# Altium footprint library aekiso60.PcbLib: 9 footprints
Each footprint in its own frame and in the unit in brackets; x right, y up, seen from the top. Pads: shape width x height; smd on the part's side, far side on the other; paste and mask are expansions set on the pad; w line width, h text height; cw(c..) or ccw(c..) is an arc to the next point about the centre after c.
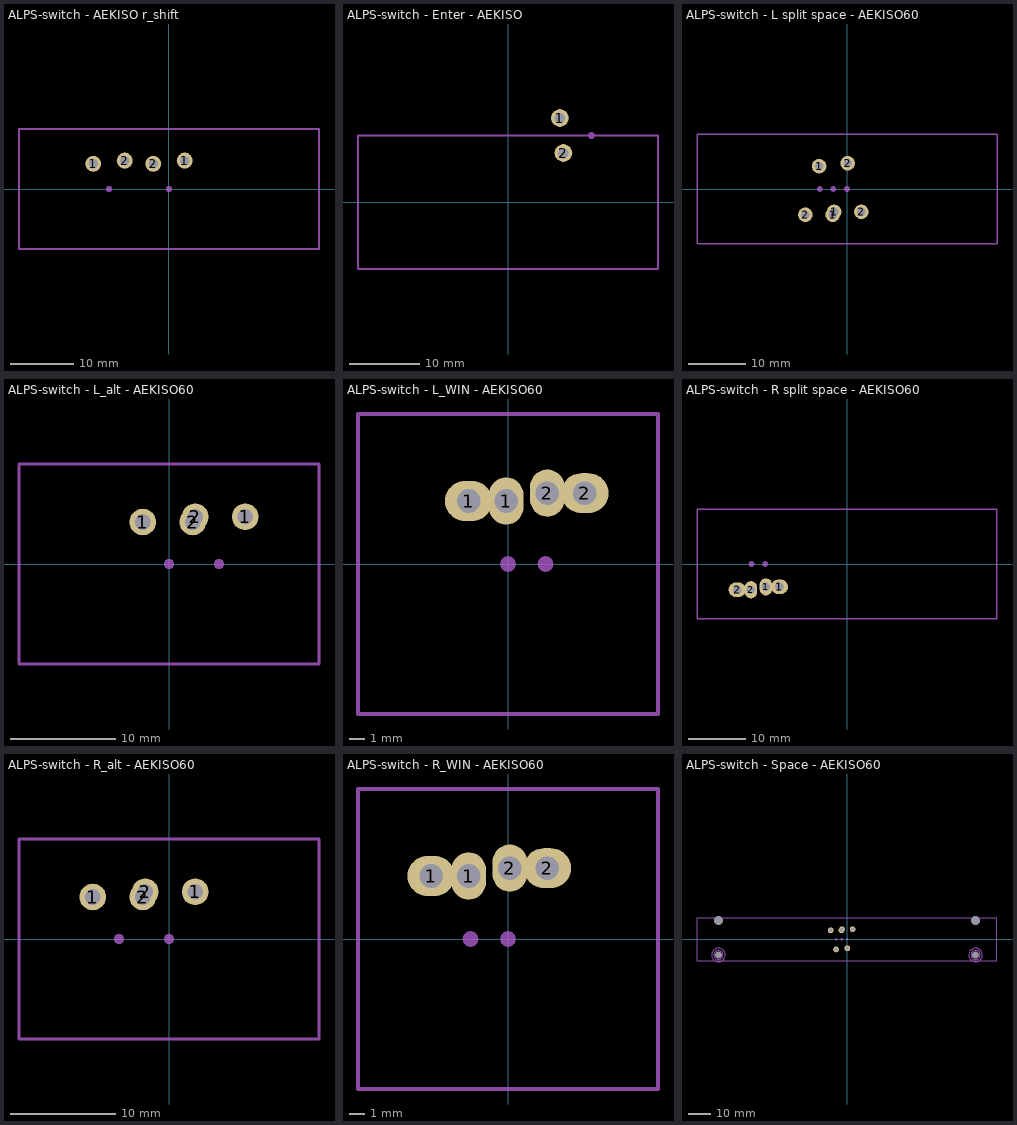
[diagram p0: the footprints below, top view; thin cyan lines are the x and y axes]

## ALPS-switch - AEKISO r_shift [mm]
pads (6):
  round 2.54 hole 1.5 mask-0.5: 1(-12.025,4) 1(2.5,4.5) 2(-7.025,4.5) 2(-2.5,4)
  round 1 on Mech13: ""(-9.525,0) ""(0,0)
Mechanical 13:
  lines w0.254: -23.812,-9.525 -23.812,9.525 23.812,9.525 23.812,-9.525 -23.812,-9.525
  text ".Designator" at -3.825,-3.375 h0.7

## ALPS-switch - Enter - AEKISO [mm]
pads (3):
  round 2.54 hole 1.5 mask-0.5: 1(7.411,12.03) 2(7.911,7.03)
  round 1 on Mech13: ""(11.911,9.53)
Mechanical 13:
  lines w0.254: -21.431,-9.525 21.431,-9.525 21.431,9.525 -21.431,9.525 -21.431,-9.525
  text ".Designator" at 7.85,1.8 h0.7

## ALPS-switch - L split space - AEKISO60 [mm]
pads (9):
  round 2.54 hole 1.5 mask-0.5: 1(-4.881,4) 1(-2.5,-4.5) 1(-2.262,-4) 2(-7.263,-4.5) 2(0.119,4.5) 2(2.5,-4)
  round 1 on Mech13: ""(-4.763,0) ""(-2.381,0) ""(0,0)
Mechanical 13:
  lines w0.254: -26.194,-9.525 26.194,-9.525 26.194,9.525 -26.194,9.525 -26.194,-9.525
  text ".Designator" at -10.525,-4.125 h0.7

## ALPS-switch - L_alt - AEKISO60 [mm]
pads (6):
  round 2.54 hole 1.5 mask-0.5: 1(-2.5,4) 1(7.263,4.5) 2(2.262,4) 2(2.5,4.5)
  round 1 on Mech13: ""(0,0) ""(4.763,0)
Mechanical 13:
  lines w0.254: -14.287,-9.525 -14.287,9.525 14.287,9.525 14.287,-9.525 -14.287,-9.525
  text ".Designator" at -10.775,-6.175 h0.7

## ALPS-switch - L_WIN - AEKISO60 [mm]
pads (6):
  oval 3x2.54 hole 1.5 mask-0.7: 1(-2.5,4) 2(4.881,4.5)
  oval 2.2x3 hole 1.5 mask-0.7: 1(-0.119,4) 2(2.5,4.5)
  round 1 on Mech13: ""(0,0) ""(2.381,0)
Mechanical 13:
  lines w0.254: -9.525,-9.525 -9.525,9.525 9.525,9.525 9.525,-9.525 -9.525,-9.525
  text ".Designator" at -4.225,-8.325 h0.7

## ALPS-switch - R split space - AEKISO60 [mm]
pads (6):
  oval 2.2x3 hole 1.5 mask-0.7: 1(-14.169,-4) 2(-16.788,-4.5)
  oval 3x2.54 hole 1.5 mask-0.7: 1(-11.787,-4) 2(-19.169,-4.5)
  round 1 on Mech13: ""(-16.669,0) ""(-14.287,0)
Mechanical 13:
  lines w0.254: -26.194,-9.525 26.194,-9.525 26.194,9.525 -26.194,9.525 -26.194,-9.525
  text ".Designator" at 7.675,-3.725 h0.7

## ALPS-switch - R_alt - AEKISO60 [mm]
pads (6):
  round 2.54 hole 1.5 mask-0.5: 1(-7.263,4) 1(2.5,4.5) 2(-2.5,4) 2(-2.262,4.5)
  round 1 on Mech13: ""(-4.763,0) ""(0,0)
Mechanical 13:
  lines w0.254: -14.287,-9.525 14.287,-9.525 14.287,9.525 -14.287,9.525 -14.287,-9.525
  text ".Designator" at -10.775,-6.175 h0.7

## ALPS-switch - R_WIN - AEKISO60 [mm]
pads (6):
  oval 3x2.54 hole 1.5 mask-0.7: 1(-4.881,4) 2(2.5,4.5)
  oval 2.2x3 hole 1.5 mask-0.7: 1(-2.5,4) 2(0.119,4.5)
  round 1 on Mech13: ""(-2.381,0) ""(0,0)
Mechanical 13:
  lines w0.254: -9.525,-9.525 -9.525,9.525 9.525,9.525 9.525,-9.525 -9.525,-9.525
  text ".Designator" at -4.225,-8.325 h0.7

## ALPS-switch - Space - AEKISO60 [mm]
pads (13):
  round 2.54 hole 1.5 mask-0.5: 1(-2.5,4) 1(-2.248,4.5) 1(0.141,-4) 2(-7.248,4) 2(-4.859,-4.5) 2(2.5,4.5)
  round 1.524 hole 3.048 unplated: ""(-57.15,-6.985) ""(57.15,-6.985)
  round 1.524 hole 4 unplated: ""(-57.15,8.255) ""(57.15,8.255)
  round 1 on Mech13: ""(-4.748,0) ""(-2.359,0) ""(0,0)
Mechanical 13:
  lines w0.254: -66.675,-9.525 -66.675,9.525 66.675,9.525 66.675,-9.525 -66.675,-9.525
  text ".Designator" at 7.625,-2.4 h0.7
Mechanical 15:
  circle w0.254: c-57.15,-6.985 r3
  circle w0.254: c-57.15,-6.985 r2
  circle w0.254: c57.15,-6.985 r3
  circle w0.254: c57.15,-6.985 r2
  text "7U" at 65.831,-1.85 h1.52